# EAGLE library part FV1BUDDY (library ElectricCanary_FV1Buddy)
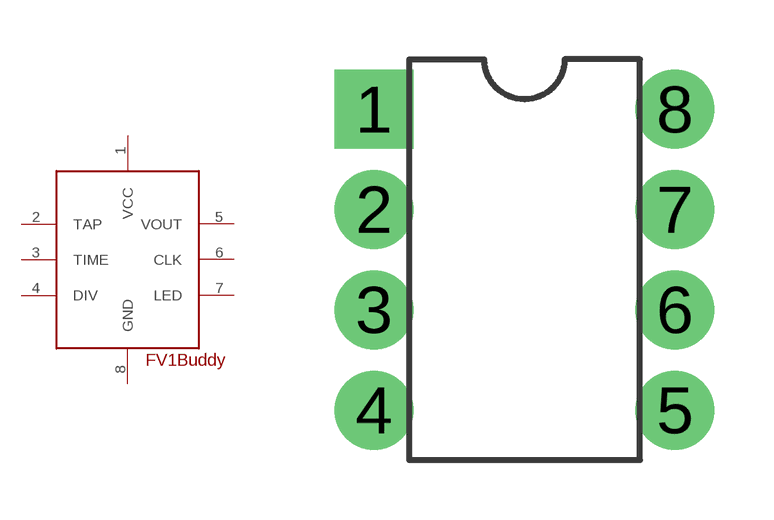
[diagram p0: symbol with the pads of FV1BUDDY; footprint FV1BUDDY]

Designator prefix -

## FV1BUDDY  [FV1BUDDY]
1  VCC
2  TAP
3  TIME
4  DIV
5  VOUT
6  CLK
7  LED
8  GND

## Footprint FV1BUDDY (pad centres in mm)
drill 1 pad 2 square: 1 -3.81,3.81
drill 1 pad 2: 2 -3.81,1.27; 3 -3.81,-1.27; 4 -3.81,-3.81; 5 3.81,-3.81; 6 3.81,-1.27; 7 3.81,1.27; 8 3.81,3.81